# EAGLE library part DC-27-SAO (library defcon)
DC27SAO device
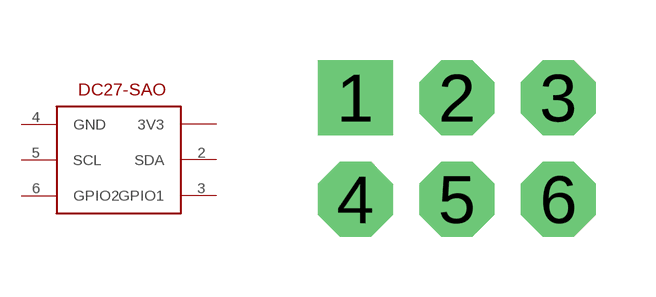
[diagram p0: symbol with the pads of 3X2; footprint 3X2]

Designator prefix -

## DC-27-SAO  [3X2]
1  3V3  pwr
2  SDA
3  GPIO1
4  GND  pwr
5  SCL
6  GPIO2

## Footprint 3X2 (pad centres in mm)
drill 1.016 pad 1.88 square: 1 -2.54,1.27
drill 1.016 pad 1.88 octagon: 2 0,1.27; 3 2.54,1.27; 4 -2.54,-1.27; 5 0,-1.27; 6 2.54,-1.27